# Altium footprint library Generic PMD.PcbLib: 85 footprints (part 4 of 6)
Each footprint in its own frame and in the unit in brackets; x right, y up, seen from the top. Pads: shape width x height; smd on the part's side, far side on the other; paste and mask are expansions set on the pad; w line width, h text height; cw(c..) or ccw(c..) is an arc to the next point about the centre after c.
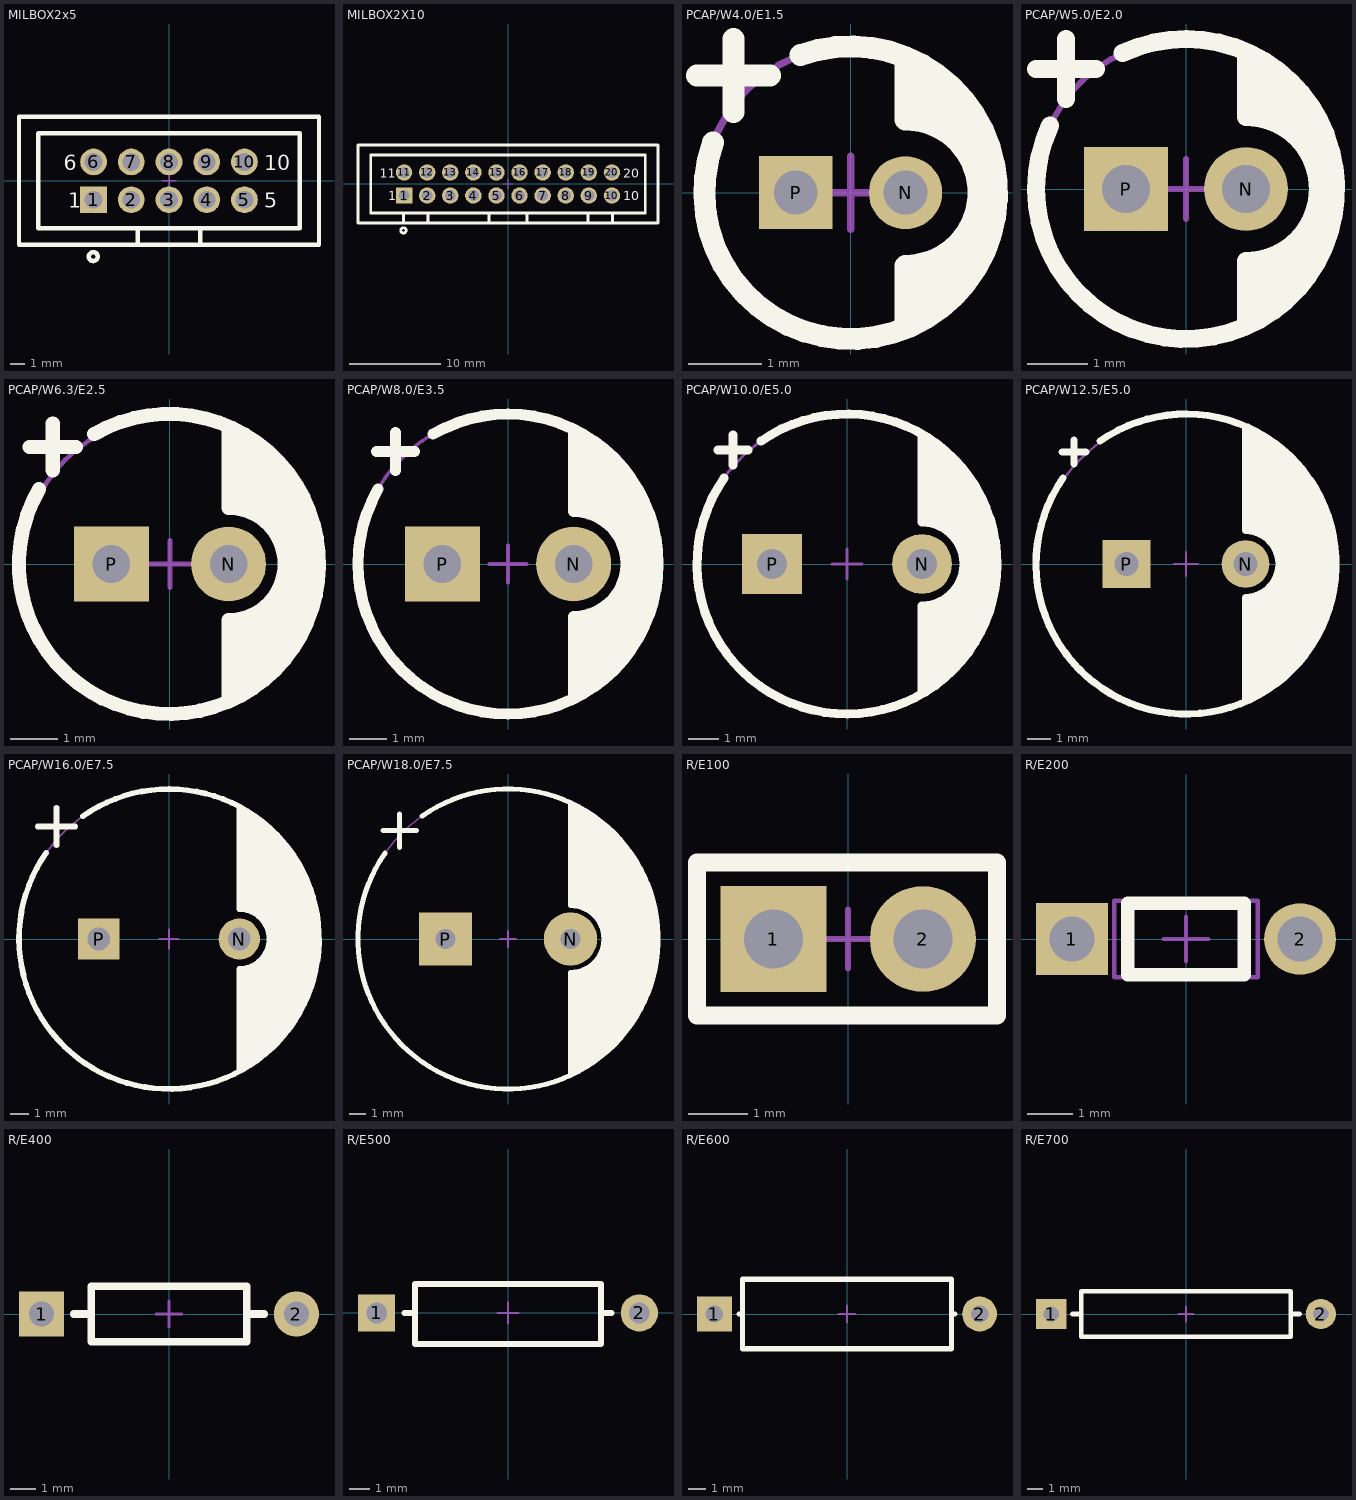
[diagram p3: the footprints below, top view; thin cyan lines are the x and y axes]

## MILBOX2x5 [mm] "Generic MILBOX Connector 2x5; Body 20.2x8.5x9.2mm; Pitch 100mil;"
height 9.2
pads (10):
  rect 1.8x1.8 hole 1.2: 1(-5.08,-1.27)
  round 1.8 hole 1.2: 2(-2.54,-1.27) 3(0,-1.27) 4(2.54,-1.27) 5(5.08,-1.27) 6(-5.08,1.27) 7(-2.54,1.27) 8(0,1.27) 9(2.54,1.27) 10(5.08,1.27)
Top Overlay:
  circle w0.3: c-5.1,-5.1 r0.3
  lines w0.3: -2.1,-4.3 -2.1,-3.2 ; 2.1,-4.3 2.1,-3.2 ; -10.1,-4.3 -10.1,4.3 10.1,4.3 10.1,-4.3 -10.1,-4.3 ; -8.8,-3.2 -8.8,3.2 8.8,3.2 8.8,-3.2 -8.8,-3.2
  text "10" at 6.4,0.7 h1
  text "5" at 6.4,-1.8 h1
  text "6" at -7.1,0.7 h1
  text "1" at -6.8,-1.8 h1
Package:
  lines w0.1: -2.05,-4.25 -2.05,-3.15 ; 2.05,-4.25 2.05,-3.15 ; -10.1,-4.25 -10.1,4.25 10.1,4.25 10.1,-4.25 -10.1,-4.25 ; -8.75,-3.15 -8.75,3.15 8.75,3.15 8.75,-3.15 -8.75,-3.15
Courtyard:
  lines w0.1: -0.5,0 0.5,0 ; 0,-0.5 0,0.5
3D body: height 9.2, standoff 0.3, extent -10.1,-4.25 10.1,4.25

## MILBOX2X10 [mm] "Generic MILBOX Connector 2x10; Body 32.9x8.5x9.2mm; Pitch 100mil;"
height 9.2
pads (20):
  rect 1.8x1.8 hole 1.2: 1(-11.43,-1.27)
  round 1.8 hole 1.2: 2(-8.89,-1.27) 3(-6.35,-1.27) 4(-3.81,-1.27) 5(-1.27,-1.27) 6(1.27,-1.27) 7(3.81,-1.27) 8(6.35,-1.27) 9(8.89,-1.27) 10(11.43,-1.27) 11(-11.43,1.27) 12(-8.89,1.27) 13(-6.35,1.27) 14(-3.81,1.27) 15(-1.27,1.27) 16(1.27,1.27) 17(3.81,1.27) 18(6.35,1.27) 19(8.89,1.27) 20(11.43,1.27)
Top Overlay:
  circle w0.3: c-11.5,-5.1 r0.3
  lines w0.3: -11.5,-4.3 -11.5,-3.2 ; -8.8,-4.3 -8.8,-3.2 ; -2.1,-4.3 -2.1,-3.2 ; 2.1,-4.3 2.1,-3.2 ; 8.8,-4.3 8.8,-3.2 ; 11.5,-4.3 11.5,-3.2 ; -16.5,-4.3 16.5,-4.3 16.5,4.3 -16.5,4.3 -16.5,-4.3 ; -15.1,-3.2 -15.1,3.2 15.1,3.2 15.1,-3.2 -15.1,-3.2
  text "1" at -13.2,-1.8 h1
  text "11" at -14.1,0.7 h1
  text "20" at 12.7,0.7 h1
  text "10" at 12.7,-1.8 h1
Package:
  lines w0.1: -11.43,-4.25 -11.43,-3.15 ; -8.89,-4.25 -8.89,-3.15 ; -2.05,-4.25 -2.05,-3.15 ; 2.05,-4.25 2.05,-3.15 ; 8.89,-4.25 8.89,-3.15 ; 11.43,-4.25 11.43,-3.15 ; -16.45,-4.25 -16.45,4.25 16.45,4.25 16.45,-4.25 -16.45,-4.25 ; -15.05,-3.15 -15.05,3.15 15.05,3.15 15.05,-3.15 -15.05,-3.15
Courtyard:
  lines w0.1: -0.5,0 0.5,0 ; 0,-0.5 0,0.5
3D body: height 9.2, standoff 0.3, extent -16.45,-4.25 16.45,4.25

## PCAP/W4.0/E1.5 [mm] "Generic Electrolytic Capacitor; Body Width 4.0mm; Pitch 1.5mm"
height 11
pads (2):
  round 1 hole 0.6: N(0.75,0)
  rect 1x1 hole 0.6: P(-0.75,0)
Top Overlay:
  lines w0.3: -2.1,1.6 -1.1,1.6 ; -1.879,0.684 ccw(c0,0) -0.684,1.879 ; -1.6,1.1 -1.6,2.1 ; 0.75,-1.8 0.75,-1 ccw(c0.75,0) 0.75,1 0.75,1.8 ; 0.8,-1.5 1.3,-1.5 ; 0.8,-1.3 1.5,-1.3 ; 0.8,-1.1 1.6,-1.1 ; 0.8,1.1 1.6,1.1 ; 0.8,1.3 1.5,1.3 ; 0.8,1.5 1.3,1.5 ; 1.3,-0.9 1.7,-0.9 ; 1.3,0.9 1.7,0.9 ; 1.5,-0.7 1.8,-0.7 ; 1.5,0.7 1.8,0.7 ; 1.7,-0.5 1.9,-0.5 ; 1.7,0.5 1.9,0.5
Package:
  circle w0.1: c0,0 r2
Courtyard:
  lines w0.1: -0.5,0 0.5,0 ; 0,-0.5 0,0.5
3D body: height 11, standoff 0, extent -1.984,-1.996 2,1.996

## PCAP/W5.0/E2.0 [mm] "Generic Electrolytic Capacitor; Body Width 5.0mm; Pitch 2.0mm"
height 11
pads (2):
  round 1.4 hole 0.8: N(1,0)
  rect 1.4x1.4 hole 0.8: P(-1,0)
Top Overlay:
  lines w0.3: -2.5,2 -1.5,2 ; -2.266,1.057 ccw(c0,0) -1.057,2.266 ; -2,1.5 -2,2.5 ; 1,-2.2 1,-1.2 ; 1,-2 1.4,-2 ; 1,-1.8 1.7,-1.8 ; 1,-1.6 1.9,-1.6 ; 1,-1.4 2,-1.4 ; 1,1.4 2,1.4 ; 1,1.6 1.9,1.6 ; 1,1.8 1.7,1.8 ; 1,2 1.5,2 ; 1,2.2 1,1.2 ; 1.7,-1 2.2,-1 ; 1.7,1 2.2,1 ; 1.9,-0.8 2.3,-0.8 ; 2,0.8 2.3,0.8 ; 2.1,-1.2 1,-1.2 ; 2.1,-0.6 2.4,-0.6 ; 2.1,0.6 2.4,0.6 ; 2.1,1.2 1,1.2 ; 2.2,-0.4 2.4,-0.4 ; 2.2,-0.2 2.4,-0.2 ; 2.2,0.2 2.4,0.2 ; 2.2,0.4 2.4,0.4 ; 2.3,0 2.4,0 ; 1,-1.2 ccw(c1,0) 1,1.2
Package:
  circle w0.1: c0,0 r2.5
Courtyard:
  lines w0.1: -0.5,0 0.5,0 ; 0,-0.5 0,0.5
3D body: height 11, standoff 0, extent -2.48,-2.495 2.5,2.495

## PCAP/W6.3/E2.5 [mm] "Generic Electrolytic Capacitor; Body Width 6.3mm; Pitch 100mil/2.54mm"
height 11
pads (2):
  round 1.6 hole 0.8: N(1.25,0)
  rect 1.6x1.6 hole 0.8: P(-1.25,0)
Top Overlay:
  lines w0.3: -3,2.5 -2,2.5 ; -2.791,1.6 ccw(c-0.02,0) -1.62,2.771 ; -2.5,2 -2.5,3 ; 1.25,-2.9 1.25,-1.2 ccw(c1.25,0) 1.25,1.2 1.25,2.9 ; 1.25,-2.7 1.6,-2.7 ; 1.25,-2.5 1.9,-2.5 ; 1.25,-2.3 2.2,-2.3 ; 1.25,-2.1 2.3,-2.1 ; 1.25,-1.9 2.5,-1.9 ; 1.25,-1.7 2.6,-1.7 ; 1.25,-1.5 2.7,-1.5 ; 1.25,-1.3 2.8,-1.3 ; 1.25,1.3 2.8,1.3 ; 1.25,1.5 2.7,1.5 ; 1.25,1.7 2.6,1.7 ; 1.25,1.9 2.5,1.9 ; 1.25,2.1 2.3,2.1 ; 1.25,2.3 2.1,2.3 ; 1.25,2.5 1.9,2.5 ; 1.25,2.7 1.6,2.7 ; 1.8,-1.1 2.9,-1.1 ; 1.9,1.1 2.9,1.1 ; 2.1,-0.9 3,-0.9 ; 2.1,0.9 3,0.9 ; 2.3,-0.7 3,-0.7 ; 2.3,0.7 3,0.7 ; 2.4,-0.5 3.1,-0.5 ; 2.4,0.5 3.1,0.5 ; 2.5,-0.3 3.1,-0.3 ; 2.5,-0.1 3.1,-0.1 ; 2.5,0.1 3.1,0.1 ; 2.5,0.3 3.1,0.3
Package:
  circle w0.1: c0,0 r3.15
Courtyard:
  lines w0.1: -0.5,0 0.5,0 ; 0,-0.5 0,0.5
3D body: height 11, standoff 0, extent -3.125,-3.144 3.15,3.144

## PCAP/W8.0/E3.5 [mm] "Generic Electrolytic Capacitor; Body Width 8.0mm; Pitch 3.5mm"
height 11.5
pads (2):
  round 2 hole 1: N(1.75,0)
  rect 2x2 hole 1: P(-1.75,0)
Top Overlay:
  lines w0.3: -3.5,3 -2.5,3 ; -3.464,2 ccw(c0,0) -2,3.464 ; -3,2.5 -3,3.5 ; 1.75,-3.5 1.75,-1.4 ccw(c1.75,0) 1.75,1.4 1.75,3.5 ; 1.75,-3.3 2.2,-3.3 ; 1.75,-3.1 2.5,-3.1 ; 1.75,-2.9 2.7,-2.9 ; 1.75,-2.7 2.9,-2.7 ; 1.75,-2.5 3,-2.5 ; 1.75,-2.3 3.2,-2.3 ; 1.75,-2.1 3.3,-2.1 ; 1.75,-1.9 3.4,-1.9 ; 1.75,-1.7 3.5,-1.7 ; 1.75,-1.5 3.6,-1.5 ; 1.75,1.5 3.6,1.5 ; 1.75,1.7 3.5,1.7 ; 1.75,1.9 3.4,1.9 ; 1.75,2.1 3.3,2.1 ; 1.75,2.3 3.2,2.3 ; 1.75,2.5 3.1,2.5 ; 1.75,2.7 2.9,2.7 ; 1.75,2.9 2.7,2.9 ; 1.75,3.1 2.5,3.1 ; 1.75,3.3 2.2,3.3 ; 2.3,-1.3 3.7,-1.3 ; 2.4,1.3 3.7,1.3 ; 2.7,-1.1 3.8,-1.1 ; 2.7,1.1 3.8,1.1 ; 2.9,-0.9 3.8,-0.9 ; 2.9,0.9 3.8,0.9 ; 3,-0.7 3.9,-0.7 ; 3,0.7 3.9,0.7 ; 3.1,-0.5 3.9,-0.5 ; 3.1,0.5 3.9,0.5 ; 3.2,-0.3 3.9,-0.3 ; 3.2,-0.1 3.9,-0.1 ; 3.2,0.1 3.9,0.1 ; 3.2,0.3 3.9,0.3
Package:
  circle w0.1: c0,0 r4
Courtyard:
  lines w0.1: -0.5,0 0.5,0 ; 0,-0.5 0,0.5
3D body: height 11, standoff 0, extent -3.968,-3.992 4,3.992

## PCAP/W10.0/E5.0 [mm] "Generic Electrolytic Capacitor; Body Width 10.0mm; Pitch 200mil/5.08mm"
height 20
pads (2):
  round 2 hole 1: N(2.5,0)
  rect 2x2 hole 1: P(-2.5,0)
Top Overlay:
  lines w0.3: -4.3,3.8 -3.3,3.8 ; -4.096,2.868 ccw(c0,0) -2.868,4.096 ; -3.8,3.3 -3.8,4.3 ; 2.5,-4.3 2.5,-1.4 ; 2.5,-4 2.9,-4 ; 2.5,-3.8 3.2,-3.8 ; 2.5,-3.6 3.4,-3.6 ; 2.5,-3.4 3.6,-3.4 ; 2.5,-3.2 3.8,-3.2 ; 2.5,-3 3.9,-3 ; 2.5,-2.8 4.1,-2.8 ; 2.5,-2.6 4.2,-2.6 ; 2.5,-2.4 4.3,-2.4 ; 2.5,-2.2 4.4,-2.2 ; 2.5,-2 4.5,-2 ; 2.5,-1.8 4.6,-1.8 ; 2.5,-1.6 4.7,-1.6 ; 2.5,1.6 4.7,1.6 ; 2.5,1.8 4.6,1.8 ; 2.5,2 4.5,2 ; 2.5,2.2 4.4,2.2 ; 2.5,2.4 4.3,2.4 ; 2.5,2.6 4.2,2.6 ; 2.5,2.8 4.1,2.8 ; 2.5,3 3.9,3 ; 2.5,3.2 3.8,3.2 ; 2.5,3.4 3.6,3.4 ; 2.5,3.6 3.4,3.6 ; 2.5,3.8 3.2,3.8 ; 2.5,4 2.9,4 ; 2.5,4.3 2.5,1.4 cw(c2.5,0) 2.5,-1.4 ; 3,1.4 4.7,1.4 ; 3.3,-1.2 4.8,-1.2 ; 3.4,1.2 4.8,1.2 ; 3.5,-1 4.8,-1 ; 3.6,1 4.8,1 ; 3.7,-0.8 4.9,-0.8 ; 3.7,0.8 4.9,0.8 ; 3.8,-0.6 4.9,-0.6 ; 3.8,0.6 4.9,0.6 ; 3.9,-0.4 4.9,-0.4 ; 3.9,-0.2 4.9,-0.2 ; 3.9,0 4.9,0 ; 3.9,0.2 4.9,0.2 ; 3.9,0.4 4.9,0.4 ; 4.7,-1.4 2.5,-1.4
Package:
  circle w0.1: c0,0 r5
Courtyard:
  lines w0.1: -0.5,0 0.5,0 ; 0,-0.5 0,0.5
3D body: height 11, standoff 0, extent -4.96,-4.99 5,4.99

## PCAP/W12.5/E5.0 [mm] "Generic Electrolytic Capacitor; Body Width 12.5mm; Pitch 200mil/5.08mm"
height 20
pads (2):
  round 2 hole 1: N(2.5,0)
  rect 2x2 hole 1: P(-2.5,0)
Top Overlay:
  lines w0.3: -5.2,4.7 -4.2,4.7 ; -5.161,3.614 ccw(c0,0) -3.614,5.161 ; -4.7,4.2 -4.7,5.2 ; 2.5,-5.7 2.5,-1.4 ; 2.5,-5.4 3.2,-5.4 ; 2.5,-5.2 3.5,-5.2 ; 2.5,-5 3.8,-5 ; 2.5,-4.8 4,-4.8 ; 2.5,-4.6 4.2,-4.6 ; 2.5,-4.4 4.4,-4.4 ; 2.5,-4.2 4.6,-4.2 ; 2.5,-4 4.8,-4 ; 2.5,-3.8 5,-3.8 ; 2.5,-3.6 5.1,-3.6 ; 2.5,-3.4 5.2,-3.4 ; 2.5,-3.2 5.4,-3.2 ; 2.5,-3 5.5,-3 ; 2.5,-2.8 5.6,-2.8 ; 2.5,-2.6 5.7,-2.6 ; 2.5,-2.4 5.8,-2.4 ; 2.5,-2.2 5.8,-2.2 ; 2.5,-2 5.9,-2 ; 2.5,-1.8 6,-1.8 ; 2.5,-1.6 6,-1.6 ; 2.5,1.6 6,1.6 ; 2.5,1.8 6,1.8 ; 2.5,2 5.9,2 ; 2.5,2.2 5.8,2.2 ; 2.5,2.4 5.8,2.4 ; 2.5,2.6 5.7,2.6 ; 2.5,2.8 5.6,2.8 ; 2.5,3 5.5,3 ; 2.5,3.2 5.4,3.2 ; 2.5,3.4 5.2,3.4 ; 2.5,3.6 5.1,3.6 ; 2.5,3.8 5,3.8 ; 2.5,4 4.8,4 ; 2.5,4.2 4.6,4.2 ; 2.5,4.4 4.4,4.4 ; 2.5,4.6 4.2,4.6 ; 2.5,4.8 4,4.8 ; 2.5,5 3.8,5 ; 2.5,5.2 3.5,5.2 ; 2.5,5.4 3.2,5.4 ; 2.5,5.7 2.5,1.4 ; 3.3,-1.2 6.1,-1.2 ; 3.3,1.2 6.1,1.2 ; 3.5,-1 6.2,-1 ; 3.5,1 6.2,1 ; 3.7,-0.8 6.2,-0.8 ; 3.7,0.8 6.2,0.8 ; 3.8,-0.6 6.2,-0.6 ; 3.8,0.6 6.2,0.6 ; 3.9,-0.4 6.2,-0.4 ; 3.9,-0.2 6.2,-0.2 ; 3.9,0 6.3,0 ; 3.9,0.2 6.2,0.2 ; 3.9,0.4 6.2,0.4 ; 6.1,-1.4 2.5,-1.4 ; 6.1,1.4 2.5,1.4 ; 2.5,-1.4 ccw(c2.5,0) 2.5,1.4
Package:
  circle w0.1: c0,0 r6.25
Courtyard:
  lines w0.1: -0.5,0 0.5,0 ; 0,-0.5 0,0.5
3D body: height 15, standoff 0, extent -6.201,-6.238 6.25,6.238

## PCAP/W16.0/E7.5 [mm] "Generic Electrolytic Capacitor; Body Width 16.0mm; Pitch 300mil/7.5mm"
height 20
pads (2):
  round 2.2 hole 1.2 mask+0.1: N(3.75,0)
  rect 2.2x2.2 hole 1.2 mask+0.1: P(-3.75,0)
Top Overlay:
  lines w0.3: -7,6 -5,6 ; -6.553,4.589 ccw(c0,0) -4.589,6.553 ; -6,5 -6,7 ; 3.75,-7 3.75,-1.6 ; 3.75,-6.8 4.1,-6.8 ; 3.75,-6.6 4.4,-6.6 ; 3.75,-6.4 4.7,-6.4 ; 3.75,-6.2 5,-6.2 ; 3.75,-6 5.2,-6 ; 3.75,-5.8 5.4,-5.8 ; 3.75,-5.6 5.6,-5.6 ; 3.75,-5.4 5.8,-5.4 ; 3.75,-5.2 6,-5.2 ; 3.75,-5 6.2,-5 ; 3.75,-4.8 6.3,-4.8 ; 3.75,-4.6 6.5,-4.6 ; 3.75,-4.4 6.6,-4.4 ; 3.75,-4.2 6.7,-4.2 ; 3.75,-4 6.9,-4 ; 3.75,-3.8 7,-3.8 ; 3.75,-3.6 7.1,-3.6 ; 3.75,-3.4 7.2,-3.4 ; 3.75,-3.2 7.3,-3.2 ; 3.75,-3 7.3,-3 ; 3.75,-2.8 7.4,-2.8 ; 3.75,-2.6 7.5,-2.6 ; 3.75,-2.4 7.6,-2.4 ; 3.75,-2.2 7.6,-2.2 ; 3.75,-2 7.7,-2 ; 3.75,-1.8 7.7,-1.8 ; 3.75,1.8 7.7,1.8 ; 3.75,2 7.7,2 ; 3.75,2.2 7.6,2.2 ; 3.75,2.4 7.6,2.4 ; 3.75,2.6 7.5,2.6 ; 3.75,2.8 7.4,2.8 ; 3.75,3 7.4,3 ; 3.75,3.2 7.3,3.2 ; 3.75,3.4 7.2,3.4 ; 3.75,3.6 7.1,3.6 ; 3.75,3.8 7,3.8 ; 3.75,4 6.9,4 ; 3.75,4.2 6.7,4.2 ; 3.75,4.4 6.6,4.4 ; 3.75,4.6 6.5,4.6 ; 3.75,4.8 6.3,4.8 ; 3.75,5 6.2,5 ; 3.75,5.2 6,5.2 ; 3.75,5.4 5.8,5.4 ; 3.75,5.6 5.6,5.6 ; 3.75,5.8 5.4,5.8 ; 3.75,6 5.2,6 ; 3.75,6.2 5,6.2 ; 3.75,6.4 4.7,6.4 ; 3.75,6.6 4.4,6.6 ; 3.75,6.8 4.1,6.8 ; 3.75,7 3.75,1.6 ; 4.6,-1.4 7.8,-1.4 ; 4.6,1.4 7.8,1.4 ; 4.9,-1.2 7.9,-1.2 ; 4.9,1.2 7.9,1.2 ; 5,-1 7.9,-1 ; 5,1 7.9,1 ; 5.2,-0.8 7.9,-0.8 ; 5.2,0.8 7.9,0.8 ; 5.3,-0.6 7.9,-0.6 ; 5.3,-0.4 7.9,-0.4 ; 5.3,0.4 7.9,0.4 ; 5.3,0.6 7.9,0.6 ; 5.4,-0.2 7.9,-0.2 ; 5.4,0 7.9,0 ; 5.4,0.2 7.9,0.2 ; 7.8,-1.6 3.75,-1.6 ; 7.8,1.6 3.75,1.6 ; 3.75,-1.6 ccw(c3.75,0) 3.75,1.6
Package:
  circle w0.1: c0,0 r8
Courtyard:
  lines w0.1: -0.5,0 0.5,0 ; 0,-0.5 0,0.5
3D body: height 20, standoff 0, extent -7.937,-7.984 8,7.984

## PCAP/W18.0/E7.5 [mm] "Generic Electrolytic Capacitor; Body Width 18.0mm; Pitch 300mil/7.5mm"
height 40
pads (2):
  round 3.2 hole 1.2 mask+0.1: N(3.75,0)
  rect 3.2x3.2 hole 1.2 mask+0.1: P(-3.75,0)
Top Overlay:
  lines w0.3: -7.5,6.5 -5.5,6.5 ; -7.372,5.162 ccw(c0,0) -5.162,7.372 ; -6.5,5.5 -6.5,7.5 ; 3.75,-8.1 3.75,-2 ccw(c3.75,0) 3.75,2 3.75,8.1 ; 3.8,-7.9 4.2,-7.9 ; 3.8,-7.7 4.6,-7.7 ; 3.8,-7.5 4.9,-7.5 ; 3.8,-7.3 5.2,-7.3 ; 3.8,-7.1 5.4,-7.1 ; 3.8,-6.9 5.7,-6.9 ; 3.8,-6.7 5.9,-6.7 ; 3.8,-6.5 6.1,-6.5 ; 3.8,-6.3 6.3,-6.3 ; 3.8,-6.1 6.5,-6.1 ; 3.8,-5.9 6.6,-5.9 ; 3.8,-5.7 6.9,-5.7 ; 3.8,-5.5 7,-5.5 ; 3.8,-5.3 7.2,-5.3 ; 3.8,-5.1 7.3,-5.1 ; 3.8,-4.9 7.4,-4.9 ; 3.8,-4.7 7.6,-4.7 ; 3.8,-4.5 7.7,-4.5 ; 3.8,-4.3 7.8,-4.3 ; 3.8,-4.1 7.9,-4.1 ; 3.8,-3.9 8,-3.9 ; 3.8,-3.7 8.1,-3.7 ; 3.8,-3.5 8.2,-3.5 ; 3.8,-3.3 8.3,-3.3 ; 3.8,-3.1 8.3,-3.1 ; 3.8,-2.9 8.4,-2.9 ; 3.8,-2.7 8.5,-2.7 ; 3.8,-2.5 8.6,-2.5 ; 3.8,-2.3 8.6,-2.3 ; 3.8,-2.1 8.7,-2.1 ; 3.8,2.1 8.7,2.1 ; 3.8,2.3 8.6,2.3 ; 3.8,2.5 8.6,2.5 ; 3.8,2.7 8.5,2.7 ; 3.8,2.9 8.4,2.9 ; 3.8,3.1 8.3,3.1 ; 3.8,3.3 8.3,3.3 ; 3.8,3.5 8.2,3.5 ; 3.8,3.7 8.1,3.7 ; 3.8,3.9 8,3.9 ; 3.8,4.1 7.9,4.1 ; 3.8,4.3 7.8,4.3 ; 3.8,4.5 7.7,4.5 ; 3.8,4.7 7.6,4.7 ; 3.8,4.9 7.5,4.9 ; 3.8,5.1 7.3,5.1 ; 3.8,5.3 7.2,5.3 ; 3.8,5.5 7,5.5 ; 3.8,5.7 6.9,5.7 ; 3.8,5.9 6.7,5.9 ; 3.8,6.1 6.5,6.1 ; 3.8,6.3 6.3,6.3 ; 3.8,6.5 6.1,6.5 ; 3.8,6.7 5.9,6.7 ; 3.8,6.9 5.7,6.9 ; 3.8,7.1 5.5,7.1 ; 3.8,7.3 5.2,7.3 ; 3.8,7.5 4.9,7.5 ; 3.8,7.7 4.6,7.7 ; 3.8,7.9 4.3,7.9 ; 4.5,-1.9 8.7,-1.9 ; 4.5,1.9 8.7,1.9 ; 4.9,-1.7 8.7,-1.7 ; 4.9,1.7 8.8,1.7 ; 5.2,-1.5 8.8,-1.5 ; 5.2,1.5 8.8,1.5 ; 5.3,-1.3 8.8,-1.3 ; 5.3,1.3 8.9,1.3 ; 5.5,-1.1 8.9,-1.1 ; 5.5,1.1 8.9,1.1 ; 5.6,-0.9 8.9,-0.9 ; 5.6,0.9 8.9,0.9 ; 5.7,-0.7 8.9,-0.7 ; 5.7,0.7 8.9,0.7 ; 5.8,-0.5 8.9,-0.5 ; 5.8,-0.3 8.9,-0.3 ; 5.8,-0.1 8.9,-0.1 ; 5.8,0.1 8.9,0.1 ; 5.8,0.3 8.9,0.3 ; 5.8,0.5 8.9,0.5
Package:
  circle w0.1: c0,0 r9
Courtyard:
  lines w0.1: -0.5,0 0.5,0 -0.5,0 ; 0,-0.5 0,0.5 0,-0.5
3D body: height 40, standoff 0, extent -8.929,-8.982 9,8.982

## R/E100 [mm] "Resistor; Body Width 2.30mm; Pitch 100mil/2.54mm."
height 1.8
pads (2):
  rect 1.8x1.8 hole 1: 1(-1.27,0)
  round 1.8 hole 1: 2(1.27,0)
Top Overlay:
  lines w0.3: -2.57,-1.3 2.53,-1.3 2.53,1.3 -2.57,1.3 -2.57,-1.3
Courtyard:
  lines w0.1: -0.5,0 0.5,0 ; 0,-0.5 0,0.5

## R/E200 [mm] "Resistor; Body 3.20x1.70mm (LxDia. max); Pitch 200mil/3.20mm."
height 1.7
pads (2):
  rect 1.6x1.6 hole 1: 1(-2.54,0)
  round 1.6 hole 1: 2(2.54,0)
Top Overlay:
  lines w0.3: -1.3,-0.8 -1.3,0.8 1.3,0.8 1.3,-0.8 -1.3,-0.8
Package:
  lines w0.1: -1.6,-0.85 -1.6,0.85 1.6,0.85 1.6,-0.85 -1.6,-0.85
Courtyard:
  lines w0.1: -0.5,0 0.5,0 ; 0,-0.5 0,0.5
3D body: height 1.7, standoff 0, extent -1.6,-0.85 1.6,0.85

## R/E400 [mm] "Resistor; Body 6.35x2.30mm (LxDia. max); Pitch 400mil/10.16mm."
height 2.3
pads (2):
  rect 1.8x1.8 hole 1: 1(-5.08,0)
  round 1.8 hole 1: 2(5.08,0)
Top Overlay:
  lines w0.3: -3.8,0 -3.1,0 ; 3.1,0 3.8,0 ; -3.1,-1.1 3.1,-1.1 3.1,1.1 -3.1,1.1 -3.1,-1.1
Package:
  lines w0.1: -3.175,-1.15 3.175,-1.15 3.175,1.15 -3.175,1.15 -3.175,-1.15
Courtyard:
  lines w0.1: -0.5,0 0.5,0 ; 0,-0.5 0,0.5
3D body: height 2.3, standoff 0, extent -3.175,-1.15 3.175,1.15

## R/E500 [mm] "Resistor; Body 9.00x2.80mm (LxDia. max); Pitch 500mil/12.7mm."
height 2.8
pads (2):
  rect 1.8x1.8 hole 1: 1(-6.35,0)
  round 1.8 hole 1: 2(6.35,0)
Top Overlay:
  lines w0.3: -5,0 -4.5,0 ; 4.5,0 5,0 ; -4.5,-1.5 4.5,-1.5 4.5,1.4 -4.5,1.4 -4.5,-1.5
Package:
  lines w0.1: -4.5,-1.4 4.5,-1.4 4.5,1.4 -4.5,1.4 -4.5,-1.4
Courtyard:
  lines w0.1: -0.5,0 0.5,0 ; 0,-0.5 0,0.5
3D body: height 2.8, standoff 0, extent -4.5,-1.4 4.5,1.4

## R/E600 [mm] "Resistor; Body 12.0x4.0mm (LxDia. max); Pitch 600mil/15.24mm."
height 4
pads (2):
  rect 2x2 hole 1: 1(-7.62,0)
  round 2 hole 1: 2(7.62,0)
Top Overlay:
  lines w0.3: -6.2,0 -6,0 ; 6,0 6.2,0 ; -6,-2 -6,2 6,2 6,-2 -6,-2
Package:
  lines w0.1: -6,-2 -6,2 6,2 6,-2 -6,-2
Courtyard:
  lines w0.1: -0.5,0 0.5,0 ; 0,-0.5 0,0.5
3D body: height 4, standoff 0, extent -6,-2 6,2

## R/E700 [mm] "Resistor; Body Width 5.5mm (LxDia. max); Pitch 700mil/17.78mm."
height 5.5
pads (2):
  rect 2x2 hole 1: 1(-8.89,0)
  round 2 hole 1: 2(8.89,0)
Top Overlay:
  lines w0.3: -7.5,0 -6.9,0 ; 6.9,0 7.5,0 ; -6.9,-1.5 6.9,-1.5 6.9,1.5 -6.9,1.5 -6.9,-1.5
Courtyard:
  lines w0.1: -0.5,0 0.5,0 ; 0,-0.5 0,0.5